# Altium integrated library TI_Logic_Specialty_Logic.IntLib: 2504 symbols (part 35 of 81)
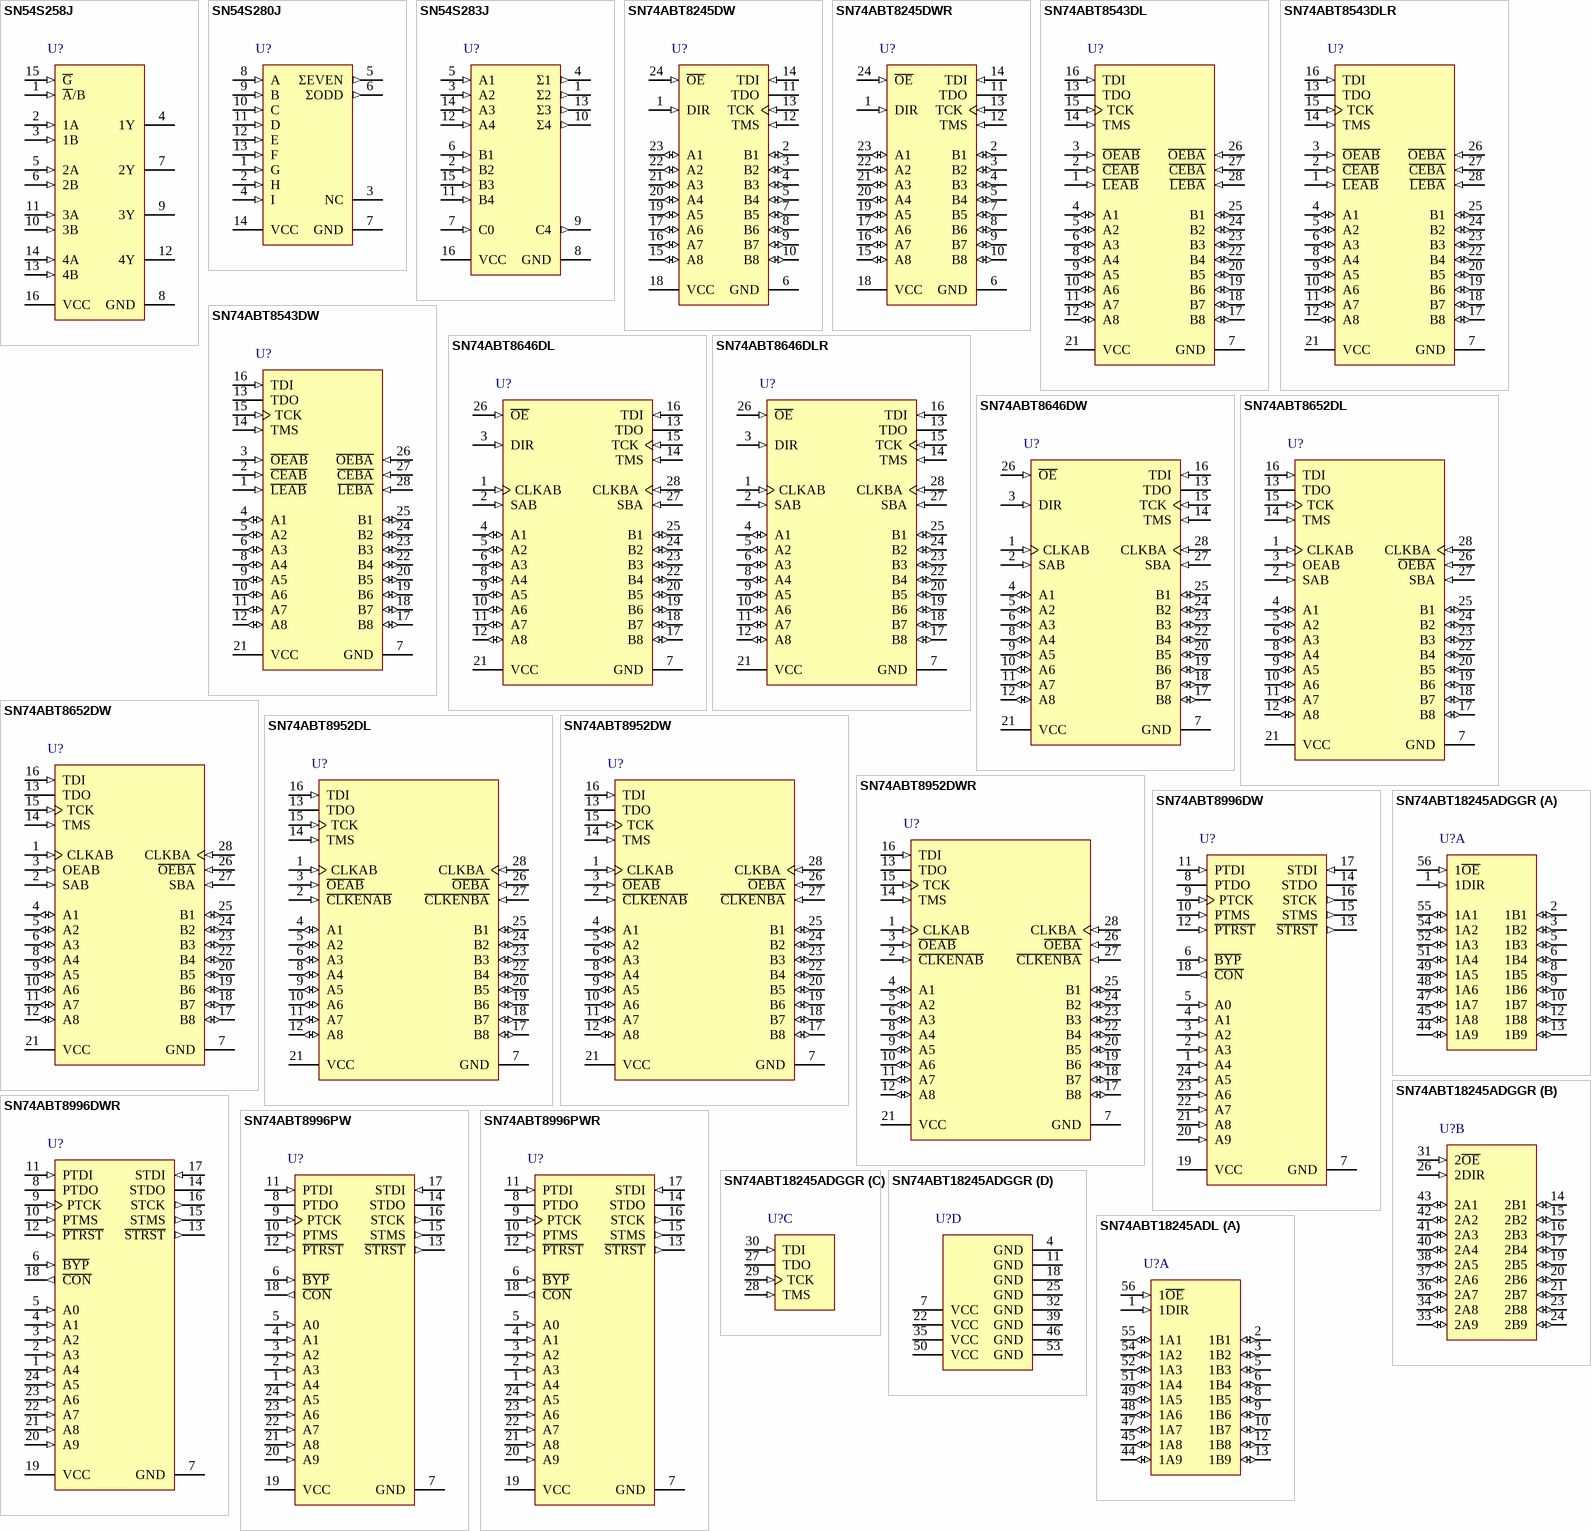
[diagram p138: symbols SN54S258J to SN74ABT18245ADL]

## SN74ABT18245ADGGR
designator U?
Scan Test Devices With 18-Bit Bus Transceivers, DGG0056A, LARGE T&R; Generic Part Number: SN74ABT18245A; Manufacturer: Texas Instruments; PartNumber: SN74ABT18245ADGGR; VCC(Min)(V): 4.5; VCC(Max)(V): 5.5; Output Type: TTL; ICC @ Nom Voltage(Max)(mA): 38; Bits(#): 18; F @ Nom Voltage(Max)(Mhz): 150; Rating: Catalog; Technology Family: ABT; Voltage(Nom)(V): 5; Output Drive (IOL/IOH)(Max)(mA): 64/-32; Output Logic: True; tpd @ Nom Voltage(Max)(ns): 5.4; DatasheetVersion: SCBS110H; PackageReference: DGG0056A; Supplier 1: Mouser; Supplier Part Number 1: 595-SNABT18245ADGGR; Supplier 2: Digi-Key; Supplier Part Number 2: 296-3937-2-ND; Supplier 3: Digi-Key; Supplier Part Number 3: 296-3937-1-ND; Supplier 4: Digi-Key; Supplier Part Number 4: 296-3937-6-ND; Input Type: TTL; Operating Temperature Range(C): -40 to 85; ComponentLink1Description: Manufacturer URL; ComponentLink1URL: http://www.ti.com/; ComponentLink2Description: Datasheet; ComponentLink2URL: http://www.ti.com/lit/ds/symlink/sn74abt18245a.pdf
footprint DGG0056A_N (TSSOP, 56-Leads, Body 14.1x6.2mm, Pitch 0.5mm, IPC Medium Density)
footprint DGG0056A_M (TSSOP, 56-Leads, Body 14.1x6.2mm, Pitch 0.5mm, IPC Low Density)
footprint DGG0056A_L (TSSOP, 56-Leads, Body 14.1x6.2mm, Pitch 0.5mm, IPC High Density)
part A pins: 1 1DIR (in) "Normal-function direction controls. See function table for normal-mode logic.", 2 1B1 (io) "Normal-function B-bus I/O ports. See function table for normal-mode logic.", 3 1B2 (io) "Normal-function B-bus I/O ports. See function table for normal-mode logic.", 5 1B3 (io) "Normal-function B-bus I/O ports. See function table for normal-mode logic.", 6 1B4 (io) "Normal-function B-bus I/O ports. See function table for normal-mode logic.", 8 1B5 (io) "Normal-function B-bus I/O ports. See function table for normal-mode logic.", 9 1B6 (io) "Normal-function B-bus I/O ports. See function table for normal-mode logic.", 10 1B7 (io) "Normal-function B-bus I/O ports. See function table for normal-mode logic.", 12 1B8 (io) "Normal-function B-bus I/O ports. See function table for normal-mode logic.", 13 1B9 (io) "Normal-function B-bus I/O ports. See function table for normal-mode logic.", 44 1A9 (io) "Normal-function A-bus I/O ports. See function table for normal-mode logic.", 45 1A8 (io) "Normal-function A-bus I/O ports. See function table for normal-mode logic.", 47 1A7 (io) "Normal-function A-bus I/O ports. See function table for normal-mode logic.", 48 1A6 (io) "Normal-function A-bus I/O ports. See function table for normal-mode logic.", 49 1A5 (io) "Normal-function A-bus I/O ports. See function table for normal-mode logic.", 51 1A4 (io) "Normal-function A-bus I/O ports. See function table for normal-mode logic.", 52 1A3 (io) "Normal-function A-bus I/O ports. See function table for normal-mode logic.", 54 1A2 (io) "Normal-function A-bus I/O ports. See function table for normal-mode logic.", 55 1A1 (io) "Normal-function A-bus I/O ports. See function table for normal-mode logic.", 56 1~{OE} (in) "Normal-function output enables. See function table for normal-mode logic."
part B pins: 14 2B1 (io) "Normal-function B-bus I/O ports. See function table for normal-mode logic.", 15 2B2 (io) "Normal-function B-bus I/O ports. See function table for normal-mode logic.", 16 2B3 (io) "Normal-function B-bus I/O ports. See function table for normal-mode logic.", 17 2B4 (io) "Normal-function B-bus I/O ports. See function table for normal-mode logic.", 19 2B5 (io) "Normal-function B-bus I/O ports. See function table for normal-mode logic.", 20 2B6 (io) "Normal-function B-bus I/O ports. See function table for normal-mode logic.", 21 2B7 (io) "Normal-function B-bus I/O ports. See function table for normal-mode logic.", 23 2B8 (io) "Normal-function B-bus I/O ports. See function table for normal-mode logic.", 24 2B9 (io) "Normal-function B-bus I/O ports. See function table for normal-mode logic.", 26 2DIR (in) "Normal-function direction controls. See function table for normal-mode logic.", 31 2~{OE} (in) "Normal-function output enables. See function table for normal-mode logic.", 33 2A9 (io) "Normal-function A-bus I/O ports. See function table for normal-mode logic.", 34 2A8 (io) "Normal-function A-bus I/O ports. See function table for normal-mode logic.", 36 2A7 (io) "Normal-function A-bus I/O ports. See function table for normal-mode logic.", 37 2A6 (io) "Normal-function A-bus I/O ports. See function table for normal-mode logic.", 38 2A5 (io) "Normal-function A-bus I/O ports. See function table for normal-mode logic.", 40 2A4 (io) "Normal-function A-bus I/O ports. See function table for normal-mode logic.", 41 2A3 (io) "Normal-function A-bus I/O ports. See function table for normal-mode logic.", 42 2A2 (io) "Normal-function A-bus I/O ports. See function table for normal-mode logic.", 43 2A1 (io) "Normal-function A-bus I/O ports. See function table for normal-mode logic."
part C pins: 27 TDO (hiz) "Test data output. One of four terminals required by IEEE Standard 1149.1-1990. TDO is the serial output for shifting data through the instruction register or selected data register.", 28 TMS (in) "Test mode select. One of four terminals required by IEEE Standard 1149.1-1990. TMS directs the device through its TAP controller states. An internal pullup forces TMS to a high level if left unconnected.", 29 TCK (in) "Test clock. One of four terminals required by IEEE Standard 1149.1-1990. Test operations of the device are synchronous to TCK. Data is captured on the rising edge of TCK and outputs change on the falling edge of TCK.", 30 TDI (in) "Test data input. One of four terminals required by IEEE Standard 1149.1-1990. TDI is the serial input for shifting data through the instruction register or selected data register. An internal pullup forces TDI to a high (See Datasheet)"
part D pins: 4 GND (power) "Ground", 7 VCC (power) "Supply voltage", 11 GND (power) "Ground", 18 GND (power) "Ground", 22 VCC (power) "Supply voltage", 25 GND (power) "Ground", 32 GND (power) "Ground", 35 VCC (power) "Supply voltage", 39 GND (power) "Ground", 46 GND (power) "Ground", 50 VCC (power) "Supply voltage", 53 GND (power) "Ground"

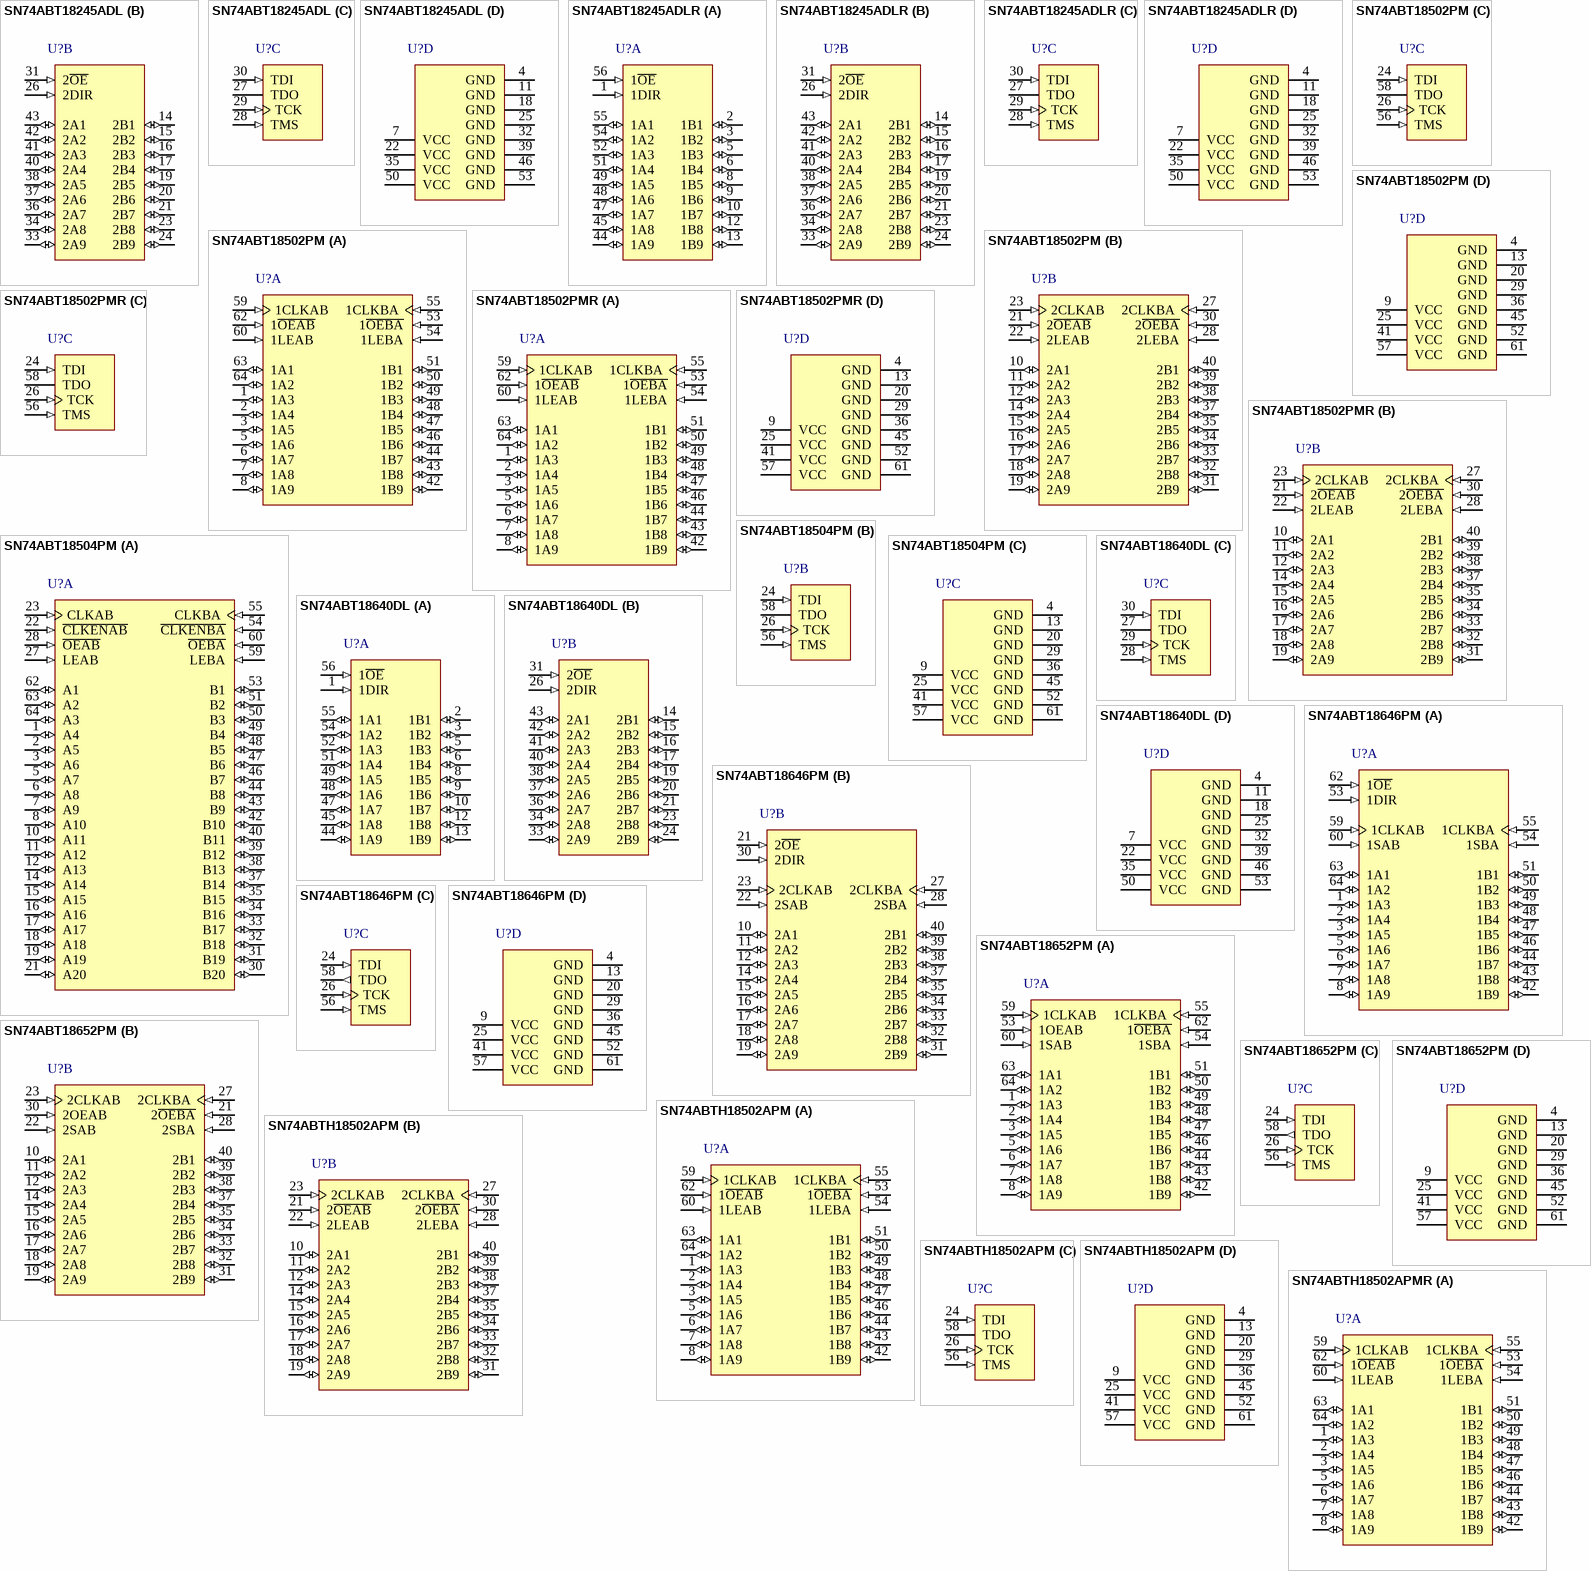
[diagram p47: symbols SN74ABT18245ADL to SN74ABTH18502APMR]

## SN74ABT18245ADL
designator U?
Scan Test Devices With 18-Bit Bus Transceivers, DL0056A, TUBE; Generic Part Number: SN74ABT18245A; Manufacturer: Texas Instruments; PartNumber: SN74ABT18245ADL; VCC(Min)(V): 4.5; VCC(Max)(V): 5.5; Output Type: TTL; ICC @ Nom Voltage(Max)(mA): 38; Bits(#): 18; F @ Nom Voltage(Max)(Mhz): 150; Rating: Catalog; Technology Family: ABT; Voltage(Nom)(V): 5; Output Drive (IOL/IOH)(Max)(mA): 64/-32; Output Logic: True; tpd @ Nom Voltage(Max)(ns): 5.4; DatasheetVersion: SCBS110H; PackageReference: DL0056A; Supplier 1: Mouser; Supplier Part Number 1: 595-SN74ABT18245ADL; Supplier 2: Digi-Key; Supplier Part Number 2: 296-3938-5-ND; Input Type: TTL; Operating Temperature Range(C): -40 to 85; ComponentLink1Description: Manufacturer URL; ComponentLink1URL: http://www.ti.com/; ComponentLink2Description: Datasheet; ComponentLink2URL: http://www.ti.com/lit/ds/symlink/sn74abt18245a.pdf
footprint DL0056A_N (SOP, 56-Leads, Body 7.6x18.5mm, Pitch 0.635mm, IPC Medium Density)
footprint DL0056A_M (SOP, 56-Leads, Body 7.6x18.5mm, Pitch 0.635mm, IPC Low Density)
footprint DL0056A_L (SOP, 56-Leads, Body 7.6x18.5mm, Pitch 0.635mm, IPC High Density)
part A pins: 1 1DIR (in) "Normal-function direction controls. See function table for normal-mode logic.", 2 1B1 (io) "Normal-function B-bus I/O ports. See function table for normal-mode logic.", 3 1B2 (io) "Normal-function B-bus I/O ports. See function table for normal-mode logic.", 5 1B3 (io) "Normal-function B-bus I/O ports. See function table for normal-mode logic.", 6 1B4 (io) "Normal-function B-bus I/O ports. See function table for normal-mode logic.", 8 1B5 (io) "Normal-function B-bus I/O ports. See function table for normal-mode logic.", 9 1B6 (io) "Normal-function B-bus I/O ports. See function table for normal-mode logic.", 10 1B7 (io) "Normal-function B-bus I/O ports. See function table for normal-mode logic.", 12 1B8 (io) "Normal-function B-bus I/O ports. See function table for normal-mode logic.", 13 1B9 (io) "Normal-function B-bus I/O ports. See function table for normal-mode logic.", 44 1A9 (io) "Normal-function A-bus I/O ports. See function table for normal-mode logic.", 45 1A8 (io) "Normal-function A-bus I/O ports. See function table for normal-mode logic.", 47 1A7 (io) "Normal-function A-bus I/O ports. See function table for normal-mode logic.", 48 1A6 (io) "Normal-function A-bus I/O ports. See function table for normal-mode logic.", 49 1A5 (io) "Normal-function A-bus I/O ports. See function table for normal-mode logic.", 51 1A4 (io) "Normal-function A-bus I/O ports. See function table for normal-mode logic.", 52 1A3 (io) "Normal-function A-bus I/O ports. See function table for normal-mode logic.", 54 1A2 (io) "Normal-function A-bus I/O ports. See function table for normal-mode logic.", 55 1A1 (io) "Normal-function A-bus I/O ports. See function table for normal-mode logic.", 56 1~{OE} (in) "Normal-function output enables. See function table for normal-mode logic."
part B pins: 14 2B1 (io) "Normal-function B-bus I/O ports. See function table for normal-mode logic.", 15 2B2 (io) "Normal-function B-bus I/O ports. See function table for normal-mode logic.", 16 2B3 (io) "Normal-function B-bus I/O ports. See function table for normal-mode logic.", 17 2B4 (io) "Normal-function B-bus I/O ports. See function table for normal-mode logic.", 19 2B5 (io) "Normal-function B-bus I/O ports. See function table for normal-mode logic.", 20 2B6 (io) "Normal-function B-bus I/O ports. See function table for normal-mode logic.", 21 2B7 (io) "Normal-function B-bus I/O ports. See function table for normal-mode logic.", 23 2B8 (io) "Normal-function B-bus I/O ports. See function table for normal-mode logic.", 24 2B9 (io) "Normal-function B-bus I/O ports. See function table for normal-mode logic.", 26 2DIR (in) "Normal-function direction controls. See function table for normal-mode logic.", 31 2~{OE} (in) "Normal-function output enables. See function table for normal-mode logic.", 33 2A9 (io) "Normal-function A-bus I/O ports. See function table for normal-mode logic.", 34 2A8 (io) "Normal-function A-bus I/O ports. See function table for normal-mode logic.", 36 2A7 (io) "Normal-function A-bus I/O ports. See function table for normal-mode logic.", 37 2A6 (io) "Normal-function A-bus I/O ports. See function table for normal-mode logic.", 38 2A5 (io) "Normal-function A-bus I/O ports. See function table for normal-mode logic.", 40 2A4 (io) "Normal-function A-bus I/O ports. See function table for normal-mode logic.", 41 2A3 (io) "Normal-function A-bus I/O ports. See function table for normal-mode logic.", 42 2A2 (io) "Normal-function A-bus I/O ports. See function table for normal-mode logic.", 43 2A1 (io) "Normal-function A-bus I/O ports. See function table for normal-mode logic."
part C pins: 27 TDO (hiz) "Test data output. One of four terminals required by IEEE Standard 1149.1-1990. TDO is the serial output for shifting data through the instruction register or selected data register.", 28 TMS (in) "Test mode select. One of four terminals required by IEEE Standard 1149.1-1990. TMS directs the device through its TAP controller states. An internal pullup forces TMS to a high level if left unconnected.", 29 TCK (in) "Test clock. One of four terminals required by IEEE Standard 1149.1-1990. Test operations of the device are synchronous to TCK. Data is captured on the rising edge of TCK and outputs change on the falling edge of TCK.", 30 TDI (in) "Test data input. One of four terminals required by IEEE Standard 1149.1-1990. TDI is the serial input for shifting data through the instruction register or selected data register. An internal pullup forces TDI to a high (See Datasheet)"
part D pins: 4 GND (power) "Ground", 7 VCC (power) "Supply voltage", 11 GND (power) "Ground", 18 GND (power) "Ground", 22 VCC (power) "Supply voltage", 25 GND (power) "Ground", 32 GND (power) "Ground", 35 VCC (power) "Supply voltage", 39 GND (power) "Ground", 46 GND (power) "Ground", 50 VCC (power) "Supply voltage", 53 GND (power) "Ground"

## SN74ABT18245ADLR
designator U?
Scan Test Devices With 18-Bit Bus Transceivers, DL0056A, LARGE T&R; Generic Part Number: SN74ABT18245A; Manufacturer: Texas Instruments; PartNumber: SN74ABT18245ADLR; VCC(Min)(V): 4.5; VCC(Max)(V): 5.5; Output Type: TTL; ICC @ Nom Voltage(Max)(mA): 38; Bits(#): 18; F @ Nom Voltage(Max)(Mhz): 150; Rating: Catalog; Technology Family: ABT; Voltage(Nom)(V): 5; Output Drive (IOL/IOH)(Max)(mA): 64/-32; Output Logic: True; tpd @ Nom Voltage(Max)(ns): 5.4; DatasheetVersion: SCBS110H; PackageReference: DL0056A; Supplier 1: Mouser; Supplier Part Number 1: 595-SN74ABT18245ADLR; Supplier 2: Digi-Key; Supplier Part Number 2: 296-3938-2-ND; Supplier 3: Digi-Key; Supplier Part Number 3: 296-3938-1-ND; Supplier 4: Digi-Key; Supplier Part Number 4: 296-3938-6-ND; Input Type: TTL; Operating Temperature Range(C): -40 to 85; ComponentLink1Description: Manufacturer URL; ComponentLink1URL: http://www.ti.com/; ComponentLink2Description: Datasheet; ComponentLink2URL: http://www.ti.com/lit/ds/symlink/sn74abt18245a.pdf
footprint DL0056A_N (SOP, 56-Leads, Body 7.6x18.5mm, Pitch 0.635mm, IPC Medium Density)
footprint DL0056A_M (SOP, 56-Leads, Body 7.6x18.5mm, Pitch 0.635mm, IPC Low Density)
footprint DL0056A_L (SOP, 56-Leads, Body 7.6x18.5mm, Pitch 0.635mm, IPC High Density)
part A pins: 1 1DIR (in) "Normal-function direction controls. See function table for normal-mode logic.", 2 1B1 (io) "Normal-function B-bus I/O ports. See function table for normal-mode logic.", 3 1B2 (io) "Normal-function B-bus I/O ports. See function table for normal-mode logic.", 5 1B3 (io) "Normal-function B-bus I/O ports. See function table for normal-mode logic.", 6 1B4 (io) "Normal-function B-bus I/O ports. See function table for normal-mode logic.", 8 1B5 (io) "Normal-function B-bus I/O ports. See function table for normal-mode logic.", 9 1B6 (io) "Normal-function B-bus I/O ports. See function table for normal-mode logic.", 10 1B7 (io) "Normal-function B-bus I/O ports. See function table for normal-mode logic.", 12 1B8 (io) "Normal-function B-bus I/O ports. See function table for normal-mode logic.", 13 1B9 (io) "Normal-function B-bus I/O ports. See function table for normal-mode logic.", 44 1A9 (io) "Normal-function A-bus I/O ports. See function table for normal-mode logic.", 45 1A8 (io) "Normal-function A-bus I/O ports. See function table for normal-mode logic.", 47 1A7 (io) "Normal-function A-bus I/O ports. See function table for normal-mode logic.", 48 1A6 (io) "Normal-function A-bus I/O ports. See function table for normal-mode logic.", 49 1A5 (io) "Normal-function A-bus I/O ports. See function table for normal-mode logic.", 51 1A4 (io) "Normal-function A-bus I/O ports. See function table for normal-mode logic.", 52 1A3 (io) "Normal-function A-bus I/O ports. See function table for normal-mode logic.", 54 1A2 (io) "Normal-function A-bus I/O ports. See function table for normal-mode logic.", 55 1A1 (io) "Normal-function A-bus I/O ports. See function table for normal-mode logic.", 56 1~{OE} (in) "Normal-function output enables. See function table for normal-mode logic."
part B pins: 14 2B1 (io) "Normal-function B-bus I/O ports. See function table for normal-mode logic.", 15 2B2 (io) "Normal-function B-bus I/O ports. See function table for normal-mode logic.", 16 2B3 (io) "Normal-function B-bus I/O ports. See function table for normal-mode logic.", 17 2B4 (io) "Normal-function B-bus I/O ports. See function table for normal-mode logic.", 19 2B5 (io) "Normal-function B-bus I/O ports. See function table for normal-mode logic.", 20 2B6 (io) "Normal-function B-bus I/O ports. See function table for normal-mode logic.", 21 2B7 (io) "Normal-function B-bus I/O ports. See function table for normal-mode logic.", 23 2B8 (io) "Normal-function B-bus I/O ports. See function table for normal-mode logic.", 24 2B9 (io) "Normal-function B-bus I/O ports. See function table for normal-mode logic.", 26 2DIR (in) "Normal-function direction controls. See function table for normal-mode logic.", 31 2~{OE} (in) "Normal-function output enables. See function table for normal-mode logic.", 33 2A9 (io) "Normal-function A-bus I/O ports. See function table for normal-mode logic.", 34 2A8 (io) "Normal-function A-bus I/O ports. See function table for normal-mode logic.", 36 2A7 (io) "Normal-function A-bus I/O ports. See function table for normal-mode logic.", 37 2A6 (io) "Normal-function A-bus I/O ports. See function table for normal-mode logic.", 38 2A5 (io) "Normal-function A-bus I/O ports. See function table for normal-mode logic.", 40 2A4 (io) "Normal-function A-bus I/O ports. See function table for normal-mode logic.", 41 2A3 (io) "Normal-function A-bus I/O ports. See function table for normal-mode logic.", 42 2A2 (io) "Normal-function A-bus I/O ports. See function table for normal-mode logic.", 43 2A1 (io) "Normal-function A-bus I/O ports. See function table for normal-mode logic."
part C pins: 27 TDO (hiz) "Test data output. One of four terminals required by IEEE Standard 1149.1-1990. TDO is the serial output for shifting data through the instruction register or selected data register.", 28 TMS (in) "Test mode select. One of four terminals required by IEEE Standard 1149.1-1990. TMS directs the device through its TAP controller states. An internal pullup forces TMS to a high level if left unconnected.", 29 TCK (in) "Test clock. One of four terminals required by IEEE Standard 1149.1-1990. Test operations of the device are synchronous to TCK. Data is captured on the rising edge of TCK and outputs change on the falling edge of TCK.", 30 TDI (in) "Test data input. One of four terminals required by IEEE Standard 1149.1-1990. TDI is the serial input for shifting data through the instruction register or selected data register. An internal pullup forces TDI to a high (See Datasheet)"
part D pins: 4 GND (power) "Ground", 7 VCC (power) "Supply voltage", 11 GND (power) "Ground", 18 GND (power) "Ground", 22 VCC (power) "Supply voltage", 25 GND (power) "Ground", 32 GND (power) "Ground", 35 VCC (power) "Supply voltage", 39 GND (power) "Ground", 46 GND (power) "Ground", 50 VCC (power) "Supply voltage", 53 GND (power) "Ground"

## SN74ABT18502PM
designator U?
Scan Test Devices With 18-Bit Universal Bus Transceiver, PM0064A, JEDEC TRAY (10+1); Generic Part Number: SN74ABT18502; Manufacturer: Texas Instruments; PartNumber: SN74ABT18502PM; VCC(Min)(V): 4.5; VCC(Max)(V): 5.5; Output Type: TTL; ICC @ Nom Voltage(Max)(mA): 38; Bits(#): 18; F @ Nom Voltage(Max)(Mhz): 150; Rating: Catalog; Technology Family: ABT; Voltage(Nom)(V): 5; Output Drive (IOL/IOH)(Max)(mA): 64/-32; Output Logic: True; tpd @ Nom Voltage(Max)(ns): 6; DatasheetVersion: SCBS753; PackageReference: PM0064A; Supplier 1: Mouser; Supplier Part Number 1: 595-SN74ABT18502PM; Supplier 2: Digi-Key; Supplier Part Number 2: 296-3939-ND; Input Type: TTL; Operating Temperature Range(C): -40 to 85; ComponentLink1Description: Manufacturer URL; ComponentLink1URL: http://www.ti.com/; ComponentLink2Description: Datasheet; ComponentLink2URL: http://www.ti.com/lit/ds/symlink/sn74abt18502.pdf
footprint PM0064A_N (QFP, 64-Leads, Body 10x10mm, Pitch 0.5mm, IPC Medium Density)
footprint PM0064A_M (QFP, 64-Leads, Body 10x10mm, Pitch 0.5mm, IPC Low Density)
footprint PM0064A_L (QFP, 64-Leads, Body 10x10mm, Pitch 0.5mm, IPC High Density)
part A pins: 1 1A3 (io) "Normal-function A-bus I/O ports. See function table for normal-mode logic.", 2 1A4 (io) "Normal-function A-bus I/O ports. See function table for normal-mode logic.", 3 1A5 (io) "Normal-function A-bus I/O ports. See function table for normal-mode logic.", 5 1A6 (io) "Normal-function A-bus I/O ports. See function table for normal-mode logic.", 6 1A7 (io) "Normal-function A-bus I/O ports. See function table for normal-mode logic.", 7 1A8 (io) "Normal-function A-bus I/O ports. See function table for normal-mode logic.", 8 1A9 (io) "Normal-function A-bus I/O ports. See function table for normal-mode logic.", 42 1B9 (io) "Normal-function B-bus I/O ports. See function table for normal-mode logic.", 43 1B8 (io) "Normal-function B-bus I/O ports. See function table for normal-mode logic.", 44 1B7 (io) "Normal-function B-bus I/O ports. See function table for normal-mode logic.", 46 1B6 (io) "Normal-function B-bus I/O ports. See function table for normal-mode logic.", 47 1B5 (io) "Normal-function B-bus I/O ports. See function table for normal-mode logic.", 48 1B4 (io) "Normal-function B-bus I/O ports. See function table for normal-mode logic.", 49 1B3 (io) "Normal-function B-bus I/O ports. See function table for normal-mode logic.", 50 1B2 (io) "Normal-function B-bus I/O ports. See function table for normal-mode logic.", 51 1B1 (io) "Normal-function B-bus I/O ports. See function table for normal-mode logic.", 53 1~{OEBA} (in) "Normal-function output enables. See function table for normal-mode logic. An internal pullup at each terminal forces the terminal to a high level if left unconnected.", 54 1LEBA (in) "Normal-function latch enables. See function table for normal-mode logic.", 55 1CLKBA (in) "Normal-function clock inputs. See function table for normal-mode logic.", 59 1CLKAB (in) "Normal-function clock inputs. See function table for normal-mode logic.", 60 1LEAB (in) "Normal-function latch enables. See function table for normal-mode logic.", 62 1~{OEAB} (in) "Normal-function output enables. See function table for normal-mode logic. An internal pullup at each terminal forces the terminal to a high level if left unconnected.", 63 1A1 (io) "Normal-function A-bus I/O ports. See function table for normal-mode logic.", 64 1A2 (io) "Normal-function A-bus I/O ports. See function table for normal-mode logic."
part B pins: 10 2A1 (io) "Normal-function A-bus I/O ports. See function table for normal-mode logic.", 11 2A2 (io) "Normal-function A-bus I/O ports. See function table for normal-mode logic.", 12 2A3 (io) "Normal-function A-bus I/O ports. See function table for normal-mode logic.", 14 2A4 (io) "Normal-function A-bus I/O ports. See function table for normal-mode logic.", 15 2A5 (io) "Normal-function A-bus I/O ports. See function table for normal-mode logic.", 16 2A6 (io) "Normal-function A-bus I/O ports. See function table for normal-mode logic.", 17 2A7 (io) "Normal-function A-bus I/O ports. See function table for normal-mode logic.", 18 2A8 (io) "Normal-function A-bus I/O ports. See function table for normal-mode logic.", 19 2A9 (io) "Normal-function A-bus I/O ports. See function table for normal-mode logic.", 21 2~{OEAB} (in) "Normal-function output enables. See function table for normal-mode logic. An internal pullup at each terminal forces the terminal to a high level if left unconnected.", 22 2LEAB (in) "Normal-function latch enables. See function table for normal-mode logic.", 23 2CLKAB (in) "Normal-function clock inputs. See function table for normal-mode logic.", 27 2CLKBA (in) "Normal-function clock inputs. See function table for normal-mode logic.", 28 2LEBA (in) "Normal-function latch enables. See function table for normal-mode logic.", 30 2~{OEBA} (in) "Normal-function output enables. See function table for normal-mode logic. An internal pullup at each terminal forces the terminal to a high level if left unconnected.", 31 2B9 (io) "Normal-function B-bus I/O ports. See function table for normal-mode logic.", 32 2B8 (io) "Normal-function B-bus I/O ports. See function table for normal-mode logic.", 33 2B7 (io) "Normal-function B-bus I/O ports. See function table for normal-mode logic.", 34 2B6 (io) "Normal-function B-bus I/O ports. See function table for normal-mode logic.", 35 2B5 (io) "Normal-function B-bus I/O ports. See function table for normal-mode logic.", 37 2B4 (io) "Normal-function B-bus I/O ports. See function table for normal-mode logic.", 38 2B3 (io) "Normal-function B-bus I/O ports. See function table for normal-mode logic.", 39 2B2 (io) "Normal-function B-bus I/O ports. See function table for normal-mode logic.", 40 2B1 (io) "Normal-function B-bus I/O ports. See function table for normal-mode logic."
part C pins: 24 TDI (in) "Test data input. One of four terminals required by IEEE Standard 1149.1-1990. TDI is the serial input for shifting data through the instruction register or selected data register. An internal pullup forces TDI to a high (See Datasheet)", 26 TCK (in) "Test clock. One of four terminals required by IEEE Standard 1149.1-1990. Test operations of the device are synchronous to TCK. Data is captured on the rising edge of TCK and outputs change on the falling edge of TCK.", 56 TMS (in) "Test mode select. One of four terminals required by IEEE Standard 1149.1-1990. TMS directs the device through its TAP controller states. An internal pullup forces TMS to a high level if left unconnected.", 58 TDO (hiz) "Test data output. One of four terminals required by IEEE Standard 1149.1-1990. TDO is the serial output for shifting data through the instruction register or selected data register."
part D pins: 4 GND (power) "Ground", 9 VCC (power) "Supply voltage", 13 GND (power) "Ground", 20 GND (power) "Ground", 25 VCC (power) "Supply voltage", 29 GND (power) "Ground", 36 GND (power) "Ground", 41 VCC (power) "Supply voltage", 45 GND (power) "Ground", 52 GND (power) "Ground", 57 VCC (power) "Supply voltage", 61 GND (power) "Ground"

## SN74ABT18502PMR
designator U?
Scan Test Devices With 18-Bit Universal Bus Transceiver, PM0064A, LARGE T&R; Generic Part Number: SN74ABT18502; Manufacturer: Texas Instruments; PartNumber: SN74ABT18502PMR; VCC(Min)(V): 4.5; VCC(Max)(V): 5.5; Output Type: TTL; ICC @ Nom Voltage(Max)(mA): 38; Bits(#): 18; F @ Nom Voltage(Max)(Mhz): 150; Rating: Catalog; Technology Family: ABT; Voltage(Nom)(V): 5; Output Drive (IOL/IOH)(Max)(mA): 64/-32; Output Logic: True; tpd @ Nom Voltage(Max)(ns): 6; DatasheetVersion: SCBS753; PackageReference: PM0064A; Supplier 1: Mouser; Supplier Part Number 1: 595-SN74ABT18502PMR; Supplier 2: Digi-Key; Supplier Part Number 2: SN74ABT18502PMR-ND; Input Type: TTL; Operating Temperature Range(C): -40 to 85; ComponentLink1Description: Manufacturer URL; ComponentLink1URL: http://www.ti.com/; ComponentLink2Description: Datasheet; ComponentLink2URL: http://www.ti.com/lit/ds/symlink/sn74abt18502.pdf
footprint PM0064A_N (QFP, 64-Leads, Body 10x10mm, Pitch 0.5mm, IPC Medium Density)
footprint PM0064A_M (QFP, 64-Leads, Body 10x10mm, Pitch 0.5mm, IPC Low Density)
footprint PM0064A_L (QFP, 64-Leads, Body 10x10mm, Pitch 0.5mm, IPC High Density)
part A pins: 1 1A3 (io) "Normal-function A-bus I/O ports. See function table for normal-mode logic.", 2 1A4 (io) "Normal-function A-bus I/O ports. See function table for normal-mode logic.", 3 1A5 (io) "Normal-function A-bus I/O ports. See function table for normal-mode logic.", 5 1A6 (io) "Normal-function A-bus I/O ports. See function table for normal-mode logic.", 6 1A7 (io) "Normal-function A-bus I/O ports. See function table for normal-mode logic.", 7 1A8 (io) "Normal-function A-bus I/O ports. See function table for normal-mode logic.", 8 1A9 (io) "Normal-function A-bus I/O ports. See function table for normal-mode logic.", 42 1B9 (io) "Normal-function B-bus I/O ports. See function table for normal-mode logic.", 43 1B8 (io) "Normal-function B-bus I/O ports. See function table for normal-mode logic.", 44 1B7 (io) "Normal-function B-bus I/O ports. See function table for normal-mode logic.", 46 1B6 (io) "Normal-function B-bus I/O ports. See function table for normal-mode logic.", 47 1B5 (io) "Normal-function B-bus I/O ports. See function table for normal-mode logic.", 48 1B4 (io) "Normal-function B-bus I/O ports. See function table for normal-mode logic.", 49 1B3 (io) "Normal-function B-bus I/O ports. See function table for normal-mode logic.", 50 1B2 (io) "Normal-function B-bus I/O ports. See function table for normal-mode logic.", 51 1B1 (io) "Normal-function B-bus I/O ports. See function table for normal-mode logic.", 53 1~{OEBA} (in) "Normal-function output enables. See function table for normal-mode logic. An internal pullup at each terminal forces the terminal to a high level if left unconnected.", 54 1LEBA (in) "Normal-function latch enables. See function table for normal-mode logic.", 55 1CLKBA (in) "Normal-function clock inputs. See function table for normal-mode logic.", 59 1CLKAB (in) "Normal-function clock inputs. See function table for normal-mode logic.", 60 1LEAB (in) "Normal-function latch enables. See function table for normal-mode logic.", 62 1~{OEAB} (in) "Normal-function output enables. See function table for normal-mode logic. An internal pullup at each terminal forces the terminal to a high level if left unconnected.", 63 1A1 (io) "Normal-function A-bus I/O ports. See function table for normal-mode logic.", 64 1A2 (io) "Normal-function A-bus I/O ports. See function table for normal-mode logic."
part B pins: 10 2A1 (io) "Normal-function A-bus I/O ports. See function table for normal-mode logic.", 11 2A2 (io) "Normal-function A-bus I/O ports. See function table for normal-mode logic.", 12 2A3 (io) "Normal-function A-bus I/O ports. See function table for normal-mode logic.", 14 2A4 (io) "Normal-function A-bus I/O ports. See function table for normal-mode logic.", 15 2A5 (io) "Normal-function A-bus I/O ports. See function table for normal-mode logic.", 16 2A6 (io) "Normal-function A-bus I/O ports. See function table for normal-mode logic.", 17 2A7 (io) "Normal-function A-bus I/O ports. See function table for normal-mode logic.", 18 2A8 (io) "Normal-function A-bus I/O ports. See function table for normal-mode logic.", 19 2A9 (io) "Normal-function A-bus I/O ports. See function table for normal-mode logic.", 21 2~{OEAB} (in) "Normal-function output enables. See function table for normal-mode logic. An internal pullup at each terminal forces the terminal to a high level if left unconnected.", 22 2LEAB (in) "Normal-function latch enables. See function table for normal-mode logic.", 23 2CLKAB (in) "Normal-function clock inputs. See function table for normal-mode logic.", 27 2CLKBA (in) "Normal-function clock inputs. See function table for normal-mode logic.", 28 2LEBA (in) "Normal-function latch enables. See function table for normal-mode logic.", 30 2~{OEBA} (in) "Normal-function output enables. See function table for normal-mode logic. An internal pullup at each terminal forces the terminal to a high level if left unconnected.", 31 2B9 (io) "Normal-function B-bus I/O ports. See function table for normal-mode logic.", 32 2B8 (io) "Normal-function B-bus I/O ports. See function table for normal-mode logic.", 33 2B7 (io) "Normal-function B-bus I/O ports. See function table for normal-mode logic.", 34 2B6 (io) "Normal-function B-bus I/O ports. See function table for normal-mode logic.", 35 2B5 (io) "Normal-function B-bus I/O ports. See function table for normal-mode logic.", 37 2B4 (io) "Normal-function B-bus I/O ports. See function table for normal-mode logic.", 38 2B3 (io) "Normal-function B-bus I/O ports. See function table for normal-mode logic.", 39 2B2 (io) "Normal-function B-bus I/O ports. See function table for normal-mode logic.", 40 2B1 (io) "Normal-function B-bus I/O ports. See function table for normal-mode logic."
part C pins: 24 TDI (in) "Test data input. One of four terminals required by IEEE Standard 1149.1-1990. TDI is the serial input for shifting data through the instruction register or selected data register. An internal pullup forces TDI to a high (See Datasheet)", 26 TCK (in) "Test clock. One of four terminals required by IEEE Standard 1149.1-1990. Test operations of the device are synchronous to TCK. Data is captured on the rising edge of TCK and outputs change on the falling edge of TCK.", 56 TMS (in) "Test mode select. One of four terminals required by IEEE Standard 1149.1-1990. TMS directs the device through its TAP controller states. An internal pullup forces TMS to a high level if left unconnected.", 58 TDO (hiz) "Test data output. One of four terminals required by IEEE Standard 1149.1-1990. TDO is the serial output for shifting data through the instruction register or selected data register."
part D pins: 4 GND (power) "Ground", 9 VCC (power) "Supply voltage", 13 GND (power) "Ground", 20 GND (power) "Ground", 25 VCC (power) "Supply voltage", 29 GND (power) "Ground", 36 GND (power) "Ground", 41 VCC (power) "Supply voltage", 45 GND (power) "Ground", 52 GND (power) "Ground", 57 VCC (power) "Supply voltage", 61 GND (power) "Ground"

## SN74ABT18504PM
designator U?
Scan Test Devices With 20-Bit Universal Bus Transceivers, PM0064A, JEDEC TRAY (10+1); Generic Part Number: SN74ABT18504; Manufacturer: Texas Instruments; PartNumber: SN74ABT18504PM; VCC(Min)(V): 4.5; VCC(Max)(V): 5.5; Output Type: TTL; ICC @ Nom Voltage(Max)(mA): 40; Bits(#): 20; F @ Nom Voltage(Max)(Mhz): 150; Rating: Catalog; Technology Family: ABT; Voltage(Nom)(V): 5; Output Drive (IOL/IOH)(Max)(mA): 64/-32; Output Logic: True; tpd @ Nom Voltage(Max)(ns): 6.5; DatasheetVersion: SCBS108B; PackageReference: PM0064A; Supplier 1: Mouser; Supplier Part Number 1: 595-SN74ABT18504PM; Supplier 2: Digi-Key; Supplier Part Number 2: 296-3940-ND; Input Type: TTL; Operating Temperature Range(C): -40 to 85; ComponentLink1Description: Manufacturer URL; ComponentLink1URL: http://www.ti.com/; ComponentLink2Description: Datasheet; ComponentLink2URL: http://www.ti.com/lit/ds/symlink/sn74abt18504.pdf
footprint PM0064A_N (QFP, 64-Leads, Body 10x10mm, Pitch 0.5mm, IPC Medium Density)
footprint PM0064A_M (QFP, 64-Leads, Body 10x10mm, Pitch 0.5mm, IPC Low Density)
footprint PM0064A_L (QFP, 64-Leads, Body 10x10mm, Pitch 0.5mm, IPC High Density)
part A pins: 1 A4 (io) "Normal-function A-bus I/O ports. See function table for normal-mode logic.", 2 A5 (io) "Normal-function A-bus I/O ports. See function table for normal-mode logic.", 3 A6 (io) "Normal-function A-bus I/O ports. See function table for normal-mode logic.", 5 A7 (io) "Normal-function A-bus I/O ports. See function table for normal-mode logic.", 6 A8 (io) "Normal-function A-bus I/O ports. See function table for normal-mode logic.", 7 A9 (io) "Normal-function A-bus I/O ports. See function table for normal-mode logic.", 8 A10 (io) "Normal-function A-bus I/O ports. See function table for normal-mode logic.", 10 A11 (io) "Normal-function A-bus I/O ports. See function table for normal-mode logic.", 11 A12 (io) "Normal-function A-bus I/O ports. See function table for normal-mode logic.", 12 A13 (io) "Normal-function A-bus I/O ports. See function table for normal-mode logic.", 14 A14 (io) "Normal-function A-bus I/O ports. See function table for normal-mode logic.", 15 A15 (io) "Normal-function A-bus I/O ports. See function table for normal-mode logic.", 16 A16 (io) "Normal-function A-bus I/O ports. See function table for normal-mode logic.", 17 A17 (io) "Normal-function A-bus I/O ports. See function table for normal-mode logic.", 18 A18 (io) "Normal-function A-bus I/O ports. See function table for normal-mode logic.", 19 A19 (io) "Normal-function A-bus I/O ports. See function table for normal-mode logic.", 21 A20 (io) "Normal-function A-bus I/O ports. See function table for normal-mode logic.", 22 ~{CLKENAB} (in) "Normal-function clock enables. See function table for normal-mode logic.", 23 CLKAB (in) "Normal-function clock inputs. See function table for normal-mode logic.", 27 LEAB (in) "Normal-function latch enables. See function table for normal-mode logic.", 28 ~{OEAB} (in) "Normal-function output enables. See function table for normal-mode logic.", 30 B20 (io) "Normal-function B-bus I/O ports. See function table for normal-mode logic.", 31 B19 (io) "Normal-function B-bus I/O ports. See function table for normal-mode logic.", 32 B18 (io) "Normal-function B-bus I/O ports. See function table for normal-mode logic.", 33 B17 (io) "Normal-function B-bus I/O ports. See function table for normal-mode logic.", 34 B16 (io) "Normal-function B-bus I/O ports. See function table for normal-mode logic.", 35 B15 (io) "Normal-function B-bus I/O ports. See function table for normal-mode logic.", 37 B14 (io) "Normal-function B-bus I/O ports. See function table for normal-mode logic.", 38 B13 (io) "Normal-function B-bus I/O ports. See function table for normal-mode logic.", 39 B12 (io) "Normal-function B-bus I/O ports. See function table for normal-mode logic.", 40 B11 (io) "Normal-function B-bus I/O ports. See function table for normal-mode logic.", 42 B10 (io) "Normal-function B-bus I/O ports. See function table for normal-mode logic.", 43 B9 (io) "Normal-function B-bus I/O ports. See function table for normal-mode logic.", 44 B8 (io) "Normal-function B-bus I/O ports. See function table for normal-mode logic.", 46 B7 (io) "Normal-function B-bus I/O ports. See function table for normal-mode logic.", 47 B6 (io) "Normal-function B-bus I/O ports. See function table for normal-mode logic.", 48 B5 (io) "Normal-function B-bus I/O ports. See function table for normal-mode logic.", 49 B4 (io) "Normal-function B-bus I/O ports. See function table for normal-mode logic.", 50 B3 (io) "Normal-function B-bus I/O ports. See function table for normal-mode logic.", 51 B2 (io) "Normal-function B-bus I/O ports. See function table for normal-mode logic.", 53 B1 (io) "Normal-function B-bus I/O ports. See function table for normal-mode logic.", 54 ~{CLKENBA} (in) "Normal-function clock enables. See function table for normal-mode logic.", 55 CLKBA (in) "Normal-function clock inputs. See function table for normal-mode logic.", 59 LEBA (in) "Normal-function latch enables. See function table for normal-mode logic.", 60 ~{OEBA} (in) "Normal-function output enables. See function table for normal-mode logic.", 62 A1 (io) "Normal-function A-bus I/O ports. See function table for normal-mode logic.", 63 A2 (io) "Normal-function A-bus I/O ports. See function table for normal-mode logic.", 64 A3 (io) "Normal-function A-bus I/O ports. See function table for normal-mode logic."
part B pins: 24 TDI (in) "Test data input. One of four pins required by IEEE Standard 1149.1-1990. The test data input is the serial input for shifting data through the instruction register or selected data register. An internal pullup forces TDI to (See Datasheet)", 26 TCK (in) "Test clock. One of four pins required by IEEE Standard 1149.1-1990. Test operations of the device are synchronous to the test clock. Data is captured on the rising edge of TCK and outputs change on the falling edge of TCK.", 56 TMS (in) "Test mode select. One of four pins required by IEEE Standard 1149.1-1990. The test mode select input directs the device through its test access port (TAP) controller states. An internal pullup forces TMS to a high level if (See Datasheet)", 58 TDO (hiz) "Test data output. One of four pins required by IEEE Standard 1149.1-1990. The test data output is the serial output for shifting data through the instruction register or selected data register."
part C pins: 4 GND (power) "Ground", 9 VCC (power) "Supply voltage", 13 GND (power) "Ground", 20 GND (power) "Ground", 25 VCC (power) "Supply voltage", 29 GND (power) "Ground", 36 GND (power) "Ground", 41 VCC (power) "Supply voltage", 45 GND (power) "Ground", 52 GND (power) "Ground", 57 VCC (power) "Supply voltage", 61 GND (power) "Ground"

## SN74ABT18640DL
designator U?
Scan Test Devices With 18-Bit Inverting Bus Transceivers, DL0056A, TUBE; Generic Part Number: SN74ABT18640; Manufacturer: Texas Instruments; PartNumber: SN74ABT18640DL; VCC(Min)(V): 4.5; VCC(Max)(V): 5.5; Output Type: TTL; ICC @ Nom Voltage(Max)(mA): 38; Bits(#): 18; F @ Nom Voltage(Max)(Mhz): 150; Rating: Catalog; Technology Family: ABT; Voltage(Nom)(V): 5; Output Drive (IOL/IOH)(Max)(mA): 64/-32; Output Logic: Inverted; tpd @ Nom Voltage(Max)(ns): 5.4; DatasheetVersion: SCBS267C; PackageReference: DL0056A; Supplier 1: Mouser; Supplier Part Number 1: 595-SN74ABT18640DL; Supplier 2: Digi-Key; Supplier Part Number 2: 296-3942-5-ND; Input Type: TTL; Operating Temperature Range(C): -40 to 85; ComponentLink1Description: Manufacturer URL; ComponentLink1URL: http://www.ti.com/; ComponentLink2Description: Datasheet; ComponentLink2URL: http://www.ti.com/lit/ds/symlink/sn74abt18640.pdf
footprint DL0056A_N (SOP, 56-Leads, Body 7.6x18.5mm, Pitch 0.635mm, IPC Medium Density)
footprint DL0056A_M (SOP, 56-Leads, Body 7.6x18.5mm, Pitch 0.635mm, IPC Low Density)
footprint DL0056A_L (SOP, 56-Leads, Body 7.6x18.5mm, Pitch 0.635mm, IPC High Density)
part A pins: 1 1DIR (in) "Normal-function direction controls. See function table for normal-mode logic.", 2 1B1 (io) "Normal-function B-bus I/O ports. See function table for normal-mode logic.", 3 1B2 (io) "Normal-function B-bus I/O ports. See function table for normal-mode logic.", 5 1B3 (io) "Normal-function B-bus I/O ports. See function table for normal-mode logic.", 6 1B4 (io) "Normal-function B-bus I/O ports. See function table for normal-mode logic.", 8 1B5 (io) "Normal-function B-bus I/O ports. See function table for normal-mode logic.", 9 1B6 (io) "Normal-function B-bus I/O ports. See function table for normal-mode logic.", 10 1B7 (io) "Normal-function B-bus I/O ports. See function table for normal-mode logic.", 12 1B8 (io) "Normal-function B-bus I/O ports. See function table for normal-mode logic.", 13 1B9 (io) "Normal-function B-bus I/O ports. See function table for normal-mode logic.", 44 1A9 (io) "Normal-function A-bus I/O ports. See function table for normal-mode logic.", 45 1A8 (io) "Normal-function A-bus I/O ports. See function table for normal-mode logic.", 47 1A7 (io) "Normal-function A-bus I/O ports. See function table for normal-mode logic.", 48 1A6 (io) "Normal-function A-bus I/O ports. See function table for normal-mode logic.", 49 1A5 (io) "Normal-function A-bus I/O ports. See function table for normal-mode logic.", 51 1A4 (io) "Normal-function A-bus I/O ports. See function table for normal-mode logic.", 52 1A3 (io) "Normal-function A-bus I/O ports. See function table for normal-mode logic.", 54 1A2 (io) "Normal-function A-bus I/O ports. See function table for normal-mode logic.", 55 1A1 (io) "Normal-function A-bus I/O ports. See function table for normal-mode logic.", 56 1~{OE} (in) "Normal-function output enables. See function table for normal-mode logic."
part B pins: 14 2B1 (io) "Normal-function B-bus I/O ports. See function table for normal-mode logic.", 15 2B2 (io) "Normal-function B-bus I/O ports. See function table for normal-mode logic.", 16 2B3 (io) "Normal-function B-bus I/O ports. See function table for normal-mode logic.", 17 2B4 (io) "Normal-function B-bus I/O ports. See function table for normal-mode logic.", 19 2B5 (io) "Normal-function B-bus I/O ports. See function table for normal-mode logic.", 20 2B6 (io) "Normal-function B-bus I/O ports. See function table for normal-mode logic.", 21 2B7 (io) "Normal-function B-bus I/O ports. See function table for normal-mode logic.", 23 2B8 (io) "Normal-function B-bus I/O ports. See function table for normal-mode logic.", 24 2B9 (io) "Normal-function B-bus I/O ports. See function table for normal-mode logic.", 26 2DIR (in) "Normal-function direction controls. See function table for normal-mode logic.", 31 2~{OE} (in) "Normal-function output enables. See function table for normal-mode logic.", 33 2A9 (io) "Normal-function A-bus I/O ports. See function table for normal-mode logic.", 34 2A8 (io) "Normal-function A-bus I/O ports. See function table for normal-mode logic.", 36 2A7 (io) "Normal-function A-bus I/O ports. See function table for normal-mode logic.", 37 2A6 (io) "Normal-function A-bus I/O ports. See function table for normal-mode logic.", 38 2A5 (io) "Normal-function A-bus I/O ports. See function table for normal-mode logic.", 40 2A4 (io) "Normal-function A-bus I/O ports. See function table for normal-mode logic.", 41 2A3 (io) "Normal-function A-bus I/O ports. See function table for normal-mode logic.", 42 2A2 (io) "Normal-function A-bus I/O ports. See function table for normal-mode logic.", 43 2A1 (io) "Normal-function A-bus I/O ports. See function table for normal-mode logic."
part C pins: 27 TDO (hiz) "Test data output. One of four terminals required by IEEE Standard 1149.1-1990. TDO is the serial output for shifting data through the instruction register or selected data register.", 28 TMS (in) "Test mode select. One of four terminals required by IEEE Standard 1149.1-1990. TMS directs the device through its TAP controller states. An internal pullup forces TMS to a high level if left unconnected.", 29 TCK (in) "Test clock. One of four terminals required by IEEE Standard 1149.1-1990. Test operations of the device are synchronous to TCK. Data is captured on the rising edge of TCK and outputs change on the falling edge of TCK.", 30 TDI (in) "Test data input. One of four terminals required by IEEE Standard 1149.1-1990. TDI is the serial input for shifting data through the instruction register or selected data register. An internal pullup forces TDI to a high (See Datasheet)"
part D pins: 4 GND (power) "Ground", 7 VCC (power) "Supply voltage", 11 GND (power) "Ground", 18 GND (power) "Ground", 22 VCC (power) "Supply voltage", 25 GND (power) "Ground", 32 GND (power) "Ground", 35 VCC (power) "Supply voltage", 39 GND (power) "Ground", 46 GND (power) "Ground", 50 VCC (power) "Supply voltage", 53 GND (power) "Ground"

## SN74ABT18646PM
designator U?
Scan Test Devices With 18-Bit Bus Transceivers And Registers, PM0064A, JEDEC TRAY (10+1); Generic Part Number: SN74ABT18646; Manufacturer: Texas Instruments; PartNumber: SN74ABT18646PM; VCC(Min)(V): 4.5; VCC(Max)(V): 5.5; Output Type: TTL; ICC @ Nom Voltage(Max)(mA): 38; Bits(#): 18; F @ Nom Voltage(Max)(Mhz): 150; Rating: Catalog; Technology Family: ABT; Voltage(Nom)(V): 5; Output Drive (IOL/IOH)(Max)(mA): 64/-32; Output Logic: True; tpd @ Nom Voltage(Max)(ns): 6.6; DatasheetVersion: SCBS131A; PackageReference: PM0064A; Supplier 1: Mouser; Supplier Part Number 1: 595-SN74ABT18646PM; Supplier 2: Digi-Key; Supplier Part Number 2: 296-3943-ND; Input Type: TTL; Operating Temperature Range(C): -40 to 85; ComponentLink1Description: Manufacturer URL; ComponentLink1URL: http://www.ti.com/; ComponentLink2Description: Datasheet; ComponentLink2URL: http://www.ti.com/lit/ds/symlink/sn74abt18646.pdf
footprint PM0064A_N (QFP, 64-Leads, Body 10x10mm, Pitch 0.5mm, IPC Medium Density)
footprint PM0064A_M (QFP, 64-Leads, Body 10x10mm, Pitch 0.5mm, IPC Low Density)
footprint PM0064A_L (QFP, 64-Leads, Body 10x10mm, Pitch 0.5mm, IPC High Density)
part A pins: 1 1A3 (io), 2 1A4 (io), 3 1A5 (io), 5 1A6 (io), 6 1A7 (io), 7 1A8 (io), 8 1A9 (io), 42 1B9 (io), 43 1B8 (io), 44 1B7 (io), 46 1B6 (io), 47 1B5 (io), 48 1B4 (io), 49 1B3 (io), 50 1B2 (io), 51 1B1 (io), 53 1DIR (in), 54 1SBA (in), 55 1CLKBA (in), 59 1CLKAB (in), 60 1SAB (in), 62 1~{OE} (in), 63 1A1 (io), 64 1A2 (io)
part B pins: 10 2A1 (io), 11 2A2 (io), 12 2A3 (io), 14 2A4 (io), 15 2A5 (io), 16 2A6 (io), 17 2A7 (io), 18 2A8 (io), 19 2A9 (io), 21 2~{OE} (in), 22 2SAB (in), 23 2CLKAB (in), 27 2CLKBA (in), 28 2SBA (in), 30 2DIR (in), 31 2B9 (io), 32 2B8 (io), 33 2B7 (io), 34 2B6 (io), 35 2B5 (io), 37 2B4 (io), 38 2B3 (io), 39 2B2 (io), 40 2B1 (io)
part C pins: 24 TDI (in), 26 TCK (in), 56 TMS (in), 58 TDO (out)
part D pins: 4 GND (power), 9 VCC (power), 13 GND (power), 20 GND (power), 25 VCC (power), 29 GND (power), 36 GND (power), 41 VCC (power), 45 GND (power), 52 GND (power), 57 VCC (power), 61 GND (power)

## SN74ABT18652PM
designator U?
Scan Test Devices With 18-Bit Bus Transceivers And Registers, PM0064A, JEDEC TRAY (10+1); Generic Part Number: SN74ABT18652; Manufacturer: Texas Instruments; PartNumber: SN74ABT18652PM; VCC(Min)(V): 4.5; VCC(Max)(V): 5.5; Output Type: TTL; ICC @ Nom Voltage(Max)(mA): 38; Bits(#): 18; F @ Nom Voltage(Max)(Mhz): 150; Rating: Catalog; Technology Family: ABT; Voltage(Nom)(V): 5; Output Drive (IOL/IOH)(Max)(mA): 64/-32; Output Logic: True; tpd @ Nom Voltage(Max)(ns): 6.6; DatasheetVersion: SCBS132B; PackageReference: PM0064A; Supplier 1: Mouser; Supplier Part Number 1: 595-SN74ABT18652PM; Supplier 2: Digi-Key; Supplier Part Number 2: 296-3944-ND; Input Type: TTL; Operating Temperature Range(C): -40 to 85; ComponentLink1Description: Manufacturer URL; ComponentLink1URL: http://www.ti.com/; ComponentLink2Description: Datasheet; ComponentLink2URL: http://www.ti.com/lit/ds/symlink/sn74abt18652.pdf
footprint PM0064A_N (QFP, 64-Leads, Body 10x10mm, Pitch 0.5mm, IPC Medium Density)
footprint PM0064A_M (QFP, 64-Leads, Body 10x10mm, Pitch 0.5mm, IPC Low Density)
footprint PM0064A_L (QFP, 64-Leads, Body 10x10mm, Pitch 0.5mm, IPC High Density)
part A pins: 1 1A3 (io), 2 1A4 (io), 3 1A5 (io), 5 1A6 (io), 6 1A7 (io), 7 1A8 (io), 8 1A9 (io), 42 1B9 (io), 43 1B8 (io), 44 1B7 (io), 46 1B6 (io), 47 1B5 (io), 48 1B4 (io), 49 1B3 (io), 50 1B2 (io), 51 1B1 (io), 53 1OEAB (in), 54 1SBA (in), 55 1CLKBA (in), 59 1CLKAB (in), 60 1SAB (in), 62 1~{OEBA} (in), 63 1A1 (io), 64 1A2 (io)
part B pins: 10 2A1 (io), 11 2A2 (io), 12 2A3 (io), 14 2A4 (io), 15 2A5 (io), 16 2A6 (io), 17 2A7 (io), 18 2A8 (io), 19 2A9 (io), 21 2~{OEBA} (in), 22 2SAB (in), 23 2CLKAB (in), 27 2CLKBA (in), 28 2SBA (in), 30 2OEAB (in), 31 2B9 (io), 32 2B8 (io), 33 2B7 (io), 34 2B6 (io), 35 2B5 (io), 37 2B4 (io), 38 2B3 (io), 39 2B2 (io), 40 2B1 (io)
part C pins: 24 TDI (in), 26 TCK (in), 56 TMS (in), 58 TDO (out)
part D pins: 4 GND (power), 9 VCC (power), 13 GND (power), 20 GND (power), 25 VCC (power), 29 GND (power), 36 GND (power), 41 VCC (power), 45 GND (power), 52 GND (power), 57 VCC (power), 61 GND (power)